# Altium footprint library PTH_70mil.PcbLib: 1 footprints
Each footprint in its own frame and in the unit in brackets; x right, y up, seen from the top. Pads: shape width x height; smd on the part's side, far side on the other; paste and mask are expansions set on the pad; w line width, h text height; cw(c..) or ccw(c..) is an arc to the next point about the centre after c.
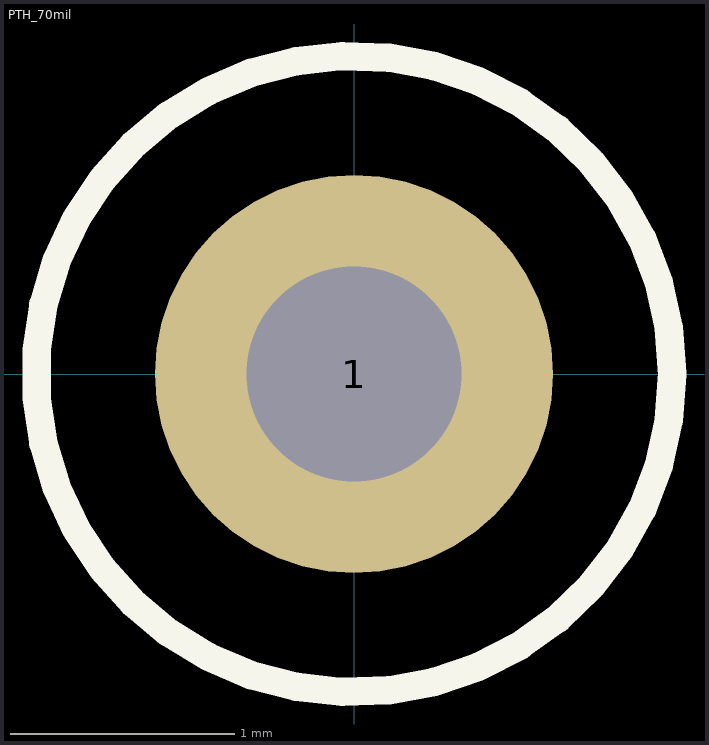
[diagram p0: the footprint, top view; thin cyan lines are the x and y axes]

## PTH_70mil [mil]
pads (1):
  round 70 hole 37.8 paste+0: 1(0,0)
Top Overlay:
  circle w5: c0,0 r55.9
Mechanical 1:
  text ".Designator" at -10,-8.73 h60